# Altium schematic symbol library MCU_NXP_HC11.SchLib: 10 symbols
Pins are listed as number, name and electrical type; pins without a type are passive.

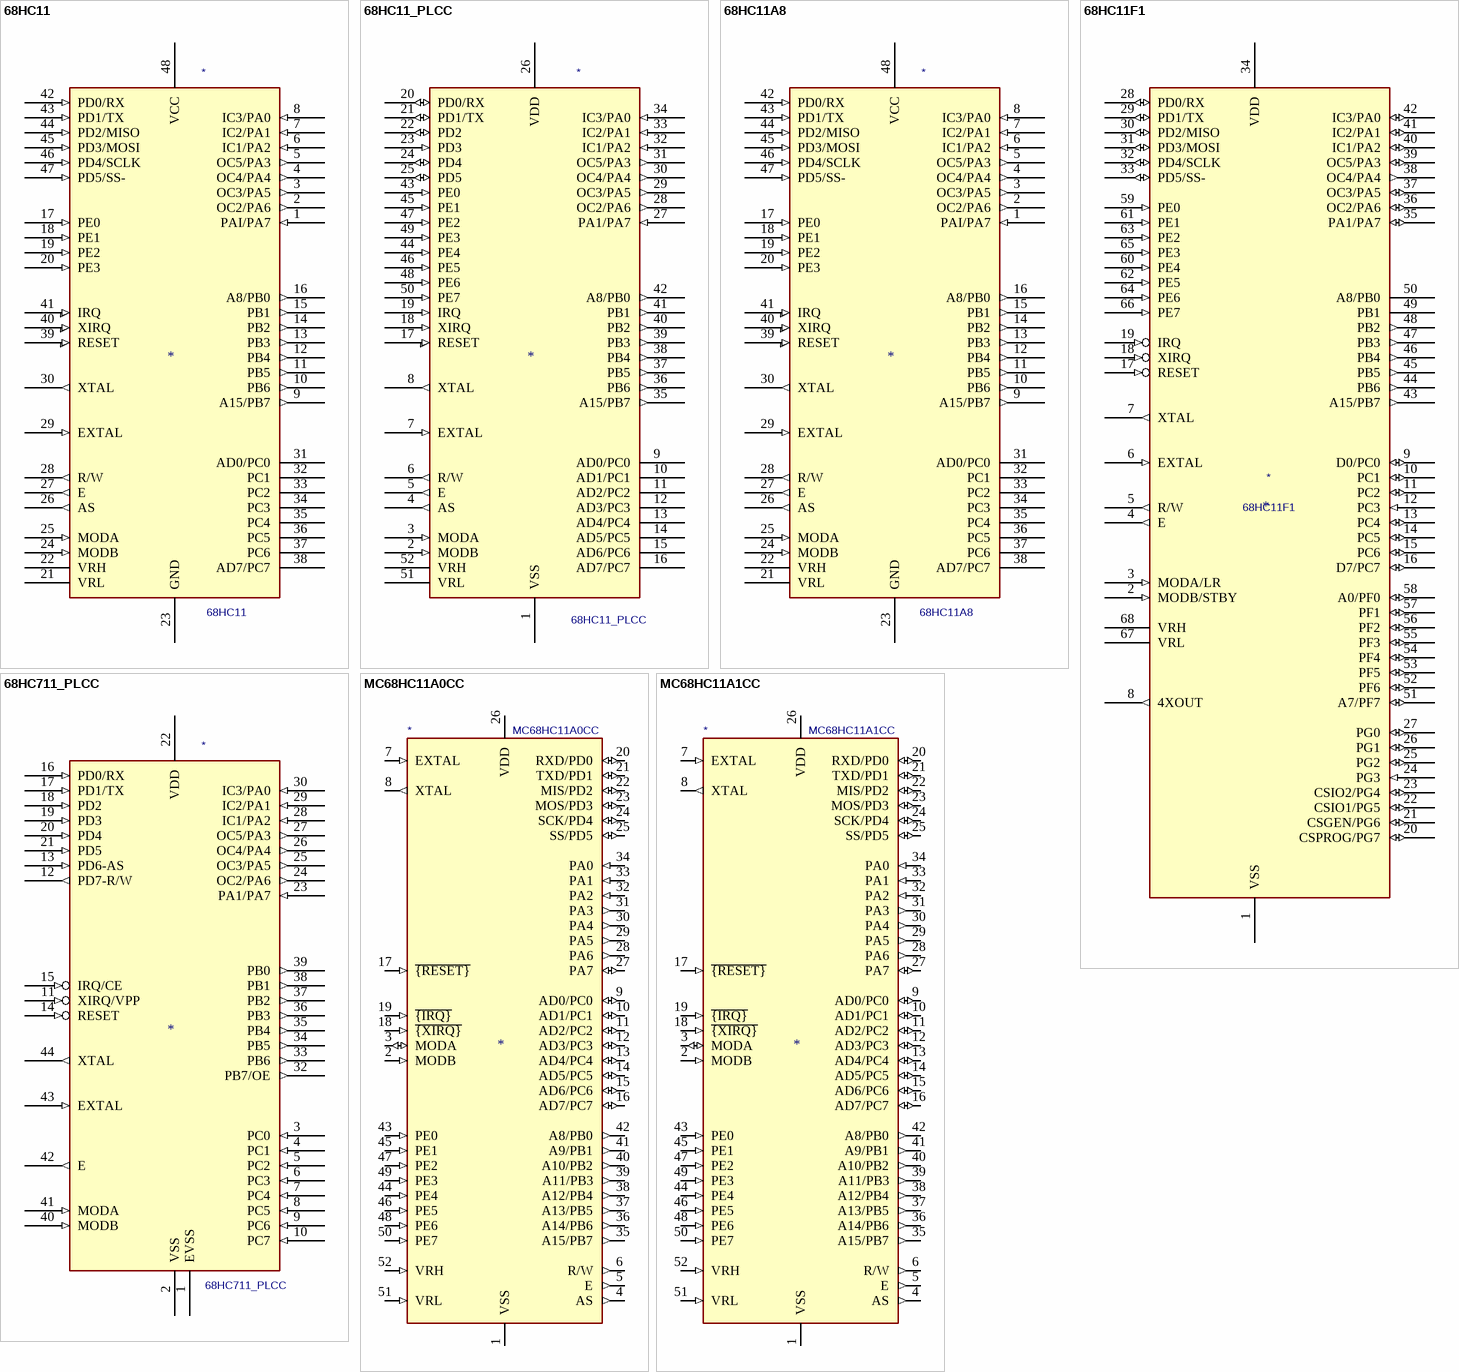
[diagram p0: symbols 68HC11 to MC68HC11A1CC]

## 68HC11
designator *  value 68HC11
ki_keywords: MCU Microcontroller HC11; ki_description: HC11 Microcontroller
pins: 1 PAI/PA7 (in), 2 OC2/PA6 (out), 3 OC3/PA5 (out), 4 OC4/PA4 (out), 5 OC5/PA3 (out), 6 IC1/PA2 (in), 7 IC2/PA1 (in), 8 IC3/PA0 (in), 9 A15/PB7 (out), 10 PB6 (out), 11 PB5 (out), 12 PB4 (out), 13 PB3 (out), 14 PB2 (out), 15 PB1 (out), 16 A8/PB0 (out), 17 PE0 (in), 18 PE1 (in), 19 PE2 (in), 20 PE3 (in), 21 VRL, 22 VRH, 23 GND (power), 24 MODB (in), 25 MODA (in), 26 AS (out), 27 E (out), 28 R/W (out), 29 EXTAL (in), 30 XTAL (out), 31 AD0/PC0 (hiz), 32 PC1 (hiz), 33 PC2 (hiz), 34 PC3 (hiz), 35 PC4 (hiz), 36 PC5 (hiz), 37 PC6 (hiz), 38 AD7/PC7 (hiz), 39 RESET (in), 40 XIRQ (in), 41 IRQ (in), 42 PD0/RX (in), 43 PD1/TX (in), 44 PD2/MISO (in), 45 PD3/MOSI (in), 46 PD4/SCLK (in), 47 PD5/SS- (in), 48 VCC (power)

## 68HC11_PLCC
designator *  value 68HC11_PLCC
ki_keywords: MCU Microcontroller HC11; ki_description: HC11 Microcontroller, PLCC-52
pins: 1 VSS (power), 2 MODB (in), 3 MODA (in), 4 AS (out), 5 E (out), 6 R/W (out), 7 EXTAL (in), 8 XTAL (out), 9 AD0/PC0 (hiz), 10 AD1/PC1 (hiz), 11 AD2/PC2 (hiz), 12 AD3/PC3 (hiz), 13 AD4/PC4 (hiz), 14 AD5/PC5 (hiz), 15 AD6/PC6 (hiz), 16 AD7/PC7 (hiz), 17 RESET (in), 18 XIRQ (in), 19 IRQ (in), 20 PD0/RX (io), 21 PD1/TX (io), 22 PD2 (io), 23 PD3 (in), 24 PD4 (io), 25 PD5 (io), 26 VDD (power), 27 PA1/PA7 (in), 28 OC2/PA6 (out), 29 OC3/PA5 (out), 30 OC4/PA4 (out), 31 OC5/PA3 (out), 32 IC1/PA2 (in), 33 IC2/PA1 (in), 34 IC3/PA0 (in), 35 A15/PB7 (out), 36 PB6 (out), 37 PB5 (out), 38 PB4 (out), 39 PB3 (out), 40 PB2 (out), 41 PB1 (out), 42 A8/PB0 (out), 43 PE0 (in), 44 PE4 (in), 45 PE1 (in), 46 PE5 (in), 47 PE2 (in), 48 PE6 (in), 49 PE3 (in), 50 PE7 (in), 51 VRL, 52 VRH

## 68HC11A8
designator *  value 68HC11A8
ki_keywords: MCU Microcontroller HC11; ki_description: HC11 Microcontroller
pins: 1 PAI/PA7 (in), 2 OC2/PA6 (out), 3 OC3/PA5 (out), 4 OC4/PA4 (out), 5 OC5/PA3 (out), 6 IC1/PA2 (in), 7 IC2/PA1 (in), 8 IC3/PA0 (in), 9 A15/PB7 (out), 10 PB6 (out), 11 PB5 (out), 12 PB4 (out), 13 PB3 (out), 14 PB2 (out), 15 PB1 (out), 16 A8/PB0 (out), 17 PE0 (in), 18 PE1 (in), 19 PE2 (in), 20 PE3 (in), 21 VRL, 22 VRH, 23 GND (power), 24 MODB (in), 25 MODA (in), 26 AS (out), 27 E (out), 28 R/W (out), 29 EXTAL (in), 30 XTAL (out), 31 AD0/PC0 (hiz), 32 PC1 (hiz), 33 PC2 (hiz), 34 PC3 (hiz), 35 PC4 (hiz), 36 PC5 (hiz), 37 PC6 (hiz), 38 AD7/PC7 (hiz), 39 RESET (in), 40 XIRQ (in), 41 IRQ (in), 42 PD0/RX (in), 43 PD1/TX (in), 44 PD2/MISO (in), 45 PD3/MOSI (in), 46 PD4/SCLK (in), 47 PD5/SS- (in), 48 VCC (power)

## 68HC11F1
designator *  value 68HC11F1
ki_keywords: MCU Microcontroller HC11; ki_description: HC11 Microcontroller; Supplier: https://www.nxp.com/docs/en/data-sheet/MC68HC11FTS.pdf
pins: 1 VSS (power), 2 MODB/STBY (in), 3 MODA/LR (in), 4 E (out), 5 R/W (out), 6 EXTAL (in), 7 XTAL (out), 8 4XOUT (out), 9 D0/PC0 (io), 10 PC1 (io), 11 PC2 (io), 12 PC3 (in), 13 PC4 (io), 14 PC5 (io), 15 PC6 (io), 16 D7/PC7 (io), 17 RESET (in), 18 XIRQ (in), 19 IRQ (in), 20 CSPROG/PG7 (io), 21 CSGEN/PG6 (io), 22 CSIO1/PG5 (io), 23 CSIO2/PG4 (io), 24 PG3 (in), 25 PG2 (io), 26 PG1 (io), 27 PG0 (io), 28 PD0/RX (io), 29 PD1/TX (io), 30 PD2/MISO (io), 31 PD3/MOSI (io), 32 PD4/SCLK (io), 33 PD5/SS- (io), 34 VDD (power), 35 PA1/PA7 (io), 36 OC2/PA6 (io), 37 OC3/PA5 (io), 38 OC4/PA4 (out), 39 OC5/PA3 (io), 40 IC1/PA2 (io), 41 IC2/PA1 (io), 42 IC3/PA0 (io), 43 A15/PB7 (out), 44 PB6 (out), 45 PB5 (out), 46 PB4 (out), 47 PB3 (out), 48 PB2 (out), 49 PB1 (hiz), 50 A8/PB0 (hiz), 51 A7/PF7 (io), 52 PF6 (io), 53 PF5 (io), 54 PF4 (io), 55 PF3 (io), 56 PF2 (io), 57 PF1 (io), 58 A0/PF0 (io), 59 PE0 (in), 60 PE4 (in), 61 PE1 (in), 62 PE5 (in), 63 PE2 (in), 64 PE6 (in), 65 PE3 (in), 66 PE7 (in), 67 VRL, 68 VRH

## 68HC711_PLCC
designator *  value 68HC711_PLCC
ki_keywords: MCU Microcontroller HC11; ki_description: HC11 Microcontroller, PLCC-44
pins: 1 EVSS (power), 2 VSS (power), 3 PC0 (in), 4 PC1 (in), 5 PC2 (in), 6 PC3 (in), 7 PC4 (in), 8 PC5 (in), 9 PC6 (in), 10 PC7 (in), 11 XIRQ/VPP (in), 12 PD7-R/W (out), 13 PD6-AS (in), 14 RESET (in), 15 IRQ/CE (in), 16 PD0/RX (in), 17 PD1/TX (in), 18 PD2 (in), 19 PD3 (in), 20 PD4 (in), 21 PD5 (in), 22 VDD (power), 23 PA1/PA7 (in), 24 OC2/PA6 (out), 25 OC3/PA5 (out), 26 OC4/PA4 (out), 27 OC5/PA3 (out), 28 IC1/PA2 (in), 29 IC2/PA1 (in), 30 IC3/PA0 (in), 32 PB7/OE (out), 33 PB6 (out), 34 PB5 (out), 35 PB4 (out), 36 PB3 (out), 37 PB2 (out), 38 PB1 (out), 39 PB0 (out), 40 MODB (in), 41 MODA (in), 42 E (out), 43 EXTAL (in), 44 XTAL (out)

## MC68HC11A0CC
designator *  value MC68HC11A0CC
ki_keywords: HC11 MCU Microcotroller; ki_description: ROMless, 256B RAM
pins: 1 VSS (power), 2 MODB (in), 3 MODA (io), 4 AS (out), 5 E (out), 6 R/W (out), 7 EXTAL (in), 8 XTAL (out), 9 AD0/PC0 (io), 10 AD1/PC1 (io), 11 AD2/PC2 (io), 12 AD3/PC3 (io), 13 AD4/PC4 (io), 14 AD5/PC5 (io), 15 AD6/PC6 (io), 16 AD7/PC7 (io), 17 ~{{RESET}} (in), 18 ~{{XIRQ}} (in), 19 ~{{IRQ}} (in), 20 RXD/PD0 (io), 21 TXD/PD1 (io), 22 MIS/PD2 (io), 23 MOS/PD3 (io), 24 SCK/PD4 (io), 25 SS/PD5 (io), 26 VDD (power), 27 PA7 (io), 28 PA6 (out), 29 PA5 (out), 30 PA4 (out), 31 PA3 (out), 32 PA2 (in), 33 PA1 (in), 34 PA0 (in), 35 A15/PB7 (out), 36 A14/PB6 (out), 37 A13/PB5 (out), 38 A12/PB4 (out), 39 A11/PB3 (out), 40 A10/PB2 (out), 41 A9/PB1 (out), 42 A8/PB0 (out), 43 PE0 (in), 44 PE4 (in), 45 PE1 (in), 46 PE5 (in), 47 PE2 (in), 48 PE6 (in), 49 PE3 (in), 50 PE7 (in), 51 VRL (in), 52 VRH (in)

## MC68HC11A1CC
designator *  value MC68HC11A1CC
ki_keywords: HC11 MCU Microcotroller; ki_description: ROMLess, 256B RAM, 512B EEPROM
pins: 1 VSS (power), 2 MODB (in), 3 MODA (io), 4 AS (out), 5 E (out), 6 R/W (out), 7 EXTAL (in), 8 XTAL (out), 9 AD0/PC0 (io), 10 AD1/PC1 (io), 11 AD2/PC2 (io), 12 AD3/PC3 (io), 13 AD4/PC4 (io), 14 AD5/PC5 (io), 15 AD6/PC6 (io), 16 AD7/PC7 (io), 17 ~{{RESET}} (in), 18 ~{{XIRQ}} (in), 19 ~{{IRQ}} (in), 20 RXD/PD0 (io), 21 TXD/PD1 (io), 22 MIS/PD2 (io), 23 MOS/PD3 (io), 24 SCK/PD4 (io), 25 SS/PD5 (io), 26 VDD (power), 27 PA7 (io), 28 PA6 (out), 29 PA5 (out), 30 PA4 (out), 31 PA3 (out), 32 PA2 (in), 33 PA1 (in), 34 PA0 (in), 35 A15/PB7 (out), 36 A14/PB6 (out), 37 A13/PB5 (out), 38 A12/PB4 (out), 39 A11/PB3 (out), 40 A10/PB2 (out), 41 A9/PB1 (out), 42 A8/PB0 (out), 43 PE0 (in), 44 PE4 (in), 45 PE1 (in), 46 PE5 (in), 47 PE2 (in), 48 PE6 (in), 49 PE3 (in), 50 PE7 (in), 51 VRL (in), 52 VRH (in)

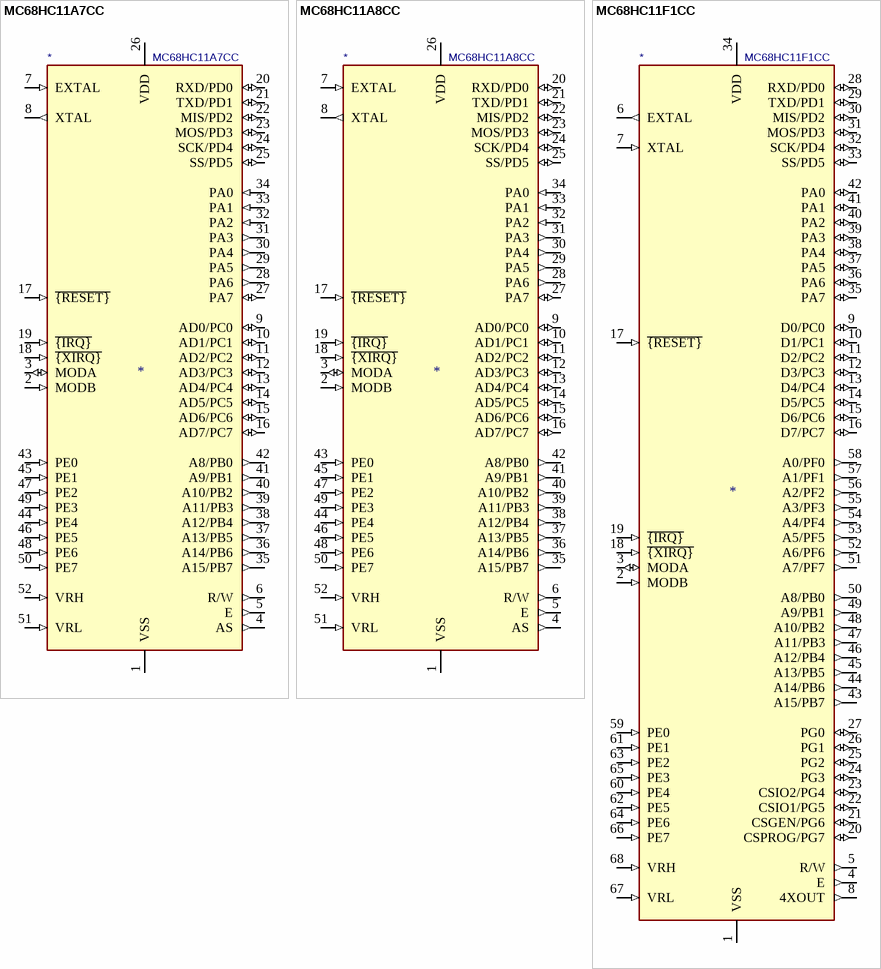
[diagram p1: symbols MC68HC11A7CC to MC68HC11F1CC]

## MC68HC11A7CC
designator *  value MC68HC11A7CC
ki_keywords: HC11 MCU Microcotroller; ki_description: 8K ROM, 256B RAM, 512B EEPROM
pins: 1 VSS (power), 2 MODB (in), 3 MODA (io), 4 AS (out), 5 E (out), 6 R/W (out), 7 EXTAL (in), 8 XTAL (out), 9 AD0/PC0 (io), 10 AD1/PC1 (io), 11 AD2/PC2 (io), 12 AD3/PC3 (io), 13 AD4/PC4 (io), 14 AD5/PC5 (io), 15 AD6/PC6 (io), 16 AD7/PC7 (io), 17 ~{{RESET}} (in), 18 ~{{XIRQ}} (in), 19 ~{{IRQ}} (in), 20 RXD/PD0 (io), 21 TXD/PD1 (io), 22 MIS/PD2 (io), 23 MOS/PD3 (io), 24 SCK/PD4 (io), 25 SS/PD5 (io), 26 VDD (power), 27 PA7 (io), 28 PA6 (out), 29 PA5 (out), 30 PA4 (out), 31 PA3 (out), 32 PA2 (in), 33 PA1 (in), 34 PA0 (in), 35 A15/PB7 (out), 36 A14/PB6 (out), 37 A13/PB5 (out), 38 A12/PB4 (out), 39 A11/PB3 (out), 40 A10/PB2 (out), 41 A9/PB1 (out), 42 A8/PB0 (out), 43 PE0 (in), 44 PE4 (in), 45 PE1 (in), 46 PE5 (in), 47 PE2 (in), 48 PE6 (in), 49 PE3 (in), 50 PE7 (in), 51 VRL (in), 52 VRH (in)

## MC68HC11A8CC
designator *  value MC68HC11A8CC
ki_keywords: HC11 MCU Microcotroller; ki_description: 8K ROM, 256B RAM, 512B EEPROM
pins: 1 VSS (power), 2 MODB (in), 3 MODA (io), 4 AS (out), 5 E (out), 6 R/W (out), 7 EXTAL (in), 8 XTAL (out), 9 AD0/PC0 (io), 10 AD1/PC1 (io), 11 AD2/PC2 (io), 12 AD3/PC3 (io), 13 AD4/PC4 (io), 14 AD5/PC5 (io), 15 AD6/PC6 (io), 16 AD7/PC7 (io), 17 ~{{RESET}} (in), 18 ~{{XIRQ}} (in), 19 ~{{IRQ}} (in), 20 RXD/PD0 (io), 21 TXD/PD1 (io), 22 MIS/PD2 (io), 23 MOS/PD3 (io), 24 SCK/PD4 (io), 25 SS/PD5 (io), 26 VDD (power), 27 PA7 (io), 28 PA6 (out), 29 PA5 (out), 30 PA4 (out), 31 PA3 (out), 32 PA2 (in), 33 PA1 (in), 34 PA0 (in), 35 A15/PB7 (out), 36 A14/PB6 (out), 37 A13/PB5 (out), 38 A12/PB4 (out), 39 A11/PB3 (out), 40 A10/PB2 (out), 41 A9/PB1 (out), 42 A8/PB0 (out), 43 PE0 (in), 44 PE4 (in), 45 PE1 (in), 46 PE5 (in), 47 PE2 (in), 48 PE6 (in), 49 PE3 (in), 50 PE7 (in), 51 VRL (in), 52 VRH (in)

## MC68HC11F1CC
designator *  value MC68HC11F1CC
ki_keywords: HC11 MCU Microcontroller; ki_description: ROMless, 1K RAM, 512B EEPROM, PLCC-68; ki_fp_filters: PLCC*; Footprint: Package_LCC:PLCC-68; Supplier: http://cache.freescale.com/files/microcontrollers/doc/data_sheet/MC68HC11F1.pdf
footprint PLCC-68
pins: 1 VSS (power), 2 MODB (in), 3 MODA (io), 4 E (out), 5 R/W (out), 6 EXTAL (out), 7 XTAL (in), 8 4XOUT (out), 9 D0/PC0 (io), 10 D1/PC1 (io), 11 D2/PC2 (io), 12 D3/PC3 (io), 13 D4/PC4 (io), 14 D5/PC5 (io), 15 D6/PC6 (io), 16 D7/PC7 (io), 17 ~{{RESET}} (in), 18 ~{{XIRQ}} (in), 19 ~{{IRQ}} (in), 20 CSPROG/PG7 (io), 21 CSGEN/PG6 (io), 22 CSIO1/PG5 (io), 23 CSIO2/PG4 (io), 24 PG3 (io), 25 PG2 (io), 26 PG1 (io), 27 PG0 (io), 28 RXD/PD0 (io), 29 TXD/PD1 (io), 30 MIS/PD2 (io), 31 MOS/PD3 (io), 32 SCK/PD4 (io), 33 SS/PD5 (io), 34 VDD (power), 35 PA7 (io), 36 PA6 (io), 37 PA5 (io), 38 PA4 (io), 39 PA3 (io), 40 PA2 (io), 41 PA1 (io), 42 PA0 (io), 43 A15/PB7 (out), 44 A14/PB6 (out), 45 A13/PB5 (out), 46 A12/PB4 (out), 47 A11/PB3 (out), 48 A10/PB2 (out), 49 A9/PB1 (out), 50 A8/PB0 (out), 51 A7/PF7 (out), 52 A6/PF6 (out), 53 A5/PF5 (out), 54 A4/PF4 (out), 55 A3/PF3 (out), 56 A2/PF2 (out), 57 A1/PF1 (out), 58 A0/PF0 (out), 59 PE0 (in), 60 PE4 (in), 61 PE1 (in), 62 PE5 (in), 63 PE2 (in), 64 PE6 (in), 65 PE3 (in), 66 PE7 (in), 67 VRL (in), 68 VRH (in)